# Altium footprint library B772.PcbLib: 1 footprints
Each footprint in its own frame and in the unit in brackets; x right, y up, seen from the top. Pads: shape width x height; smd on the part's side, far side on the other; paste and mask are expansions set on the pad; w line width, h text height; cw(c..) or ccw(c..) is an arc to the next point about the centre after c.
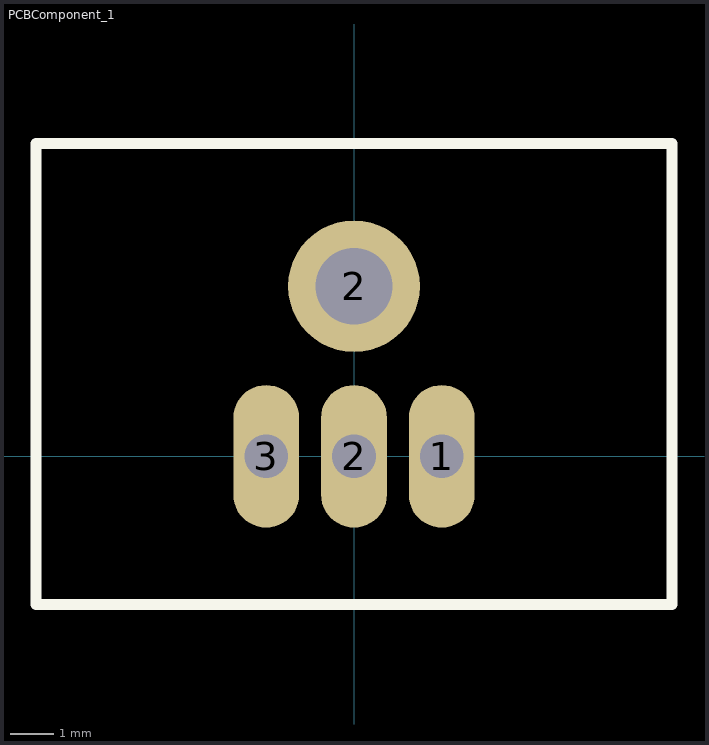
[diagram p0: the footprint, top view; thin cyan lines are the x and y axes]

## PCBComponent_1 [mil]
pads (4):
  oval 60x130 hole 40: 1(80,0) 2(0,0) 3(-80,0)
  round 120 hole 70: 2(0,155)
Top Overlay:
  lines w10: -290,-135 290,-135 290,285 -290,285 -290,-135
Bottom Overlay:
  lines w10: -290,-135 285,-135 285,280 -290,280 -290,-135
3D body "B772.STEP": height 984.25, standoff -157.48, extent -295.28,-140 295.28,289.53